# Altium schematic symbol library Schlib1.SchLib: 4 symbols
Pins are listed as number, name and electrical type; pins without a type are passive.

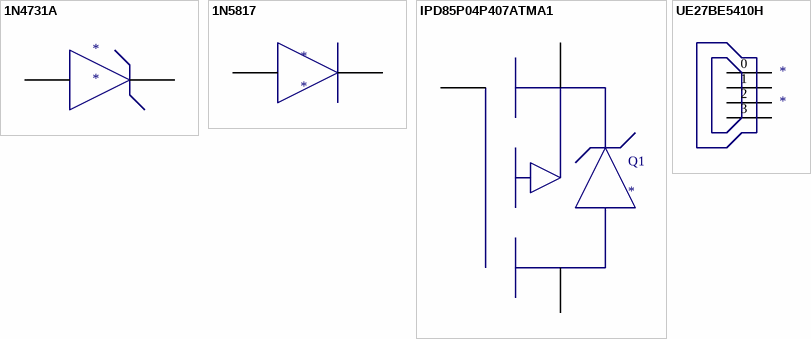
[diagram p0: symbols 1N4731A to UE27BE5410H]

## 1N4731A
designator *
footprint 1N7431A
pins: 9, 10

## 1N5817
designator *
footprint 1N5817
pins: 7, 8

## IPD85P04P407ATMA1
designator Q1
Single P-Channel 40 V 73 mOhm 89 nC OptiMOS Power Mosfet - TO-252-3; Manufacturer: Infineon; Manufacturer Part Number: IPD85P04P407ATMA1; Number of  Elements: 1; Polarity: P; Channel Mode: Enhancement; Drain-Source On-Volt: 40V; Gate-Source Voltage (Max): ±20V; Continuous Drain Current: 85A; Power Dissipation: 88W; Supplier 1: Mouser; Stock 1: 22674; Pricing 1: 1=1.89, 10=1.7, 50=1.7, 100=1.33, 500=1.1, 1000=0.959, 2500=0.958, 10000=0.958 (USD); Type: Power MOSFET; Operating Temp Range: -55C to 175C; Operating Temperature Classification: Military; Mounting: Surface Mount; Pin Count: 2 +Tab; Package Type: TO-252; ComponentLink1URL: http://www.farnell.com/datasheets/2255653.pdf?src-supplier=Newark; ComponentLink1Description: http://www.farnell.com/datasheets/2255653.pdf?src-supplier=Newark; ComponentLink2URL: http://www.farnell.com/datasheets/2255653.pdf?src-supplier=Farnell; ComponentLink2Description: http://www.farnell.com/datasheets/2255653.pdf?src-supplier=Farnell; ComponentLink3URL: http://datasheet.octopart.com/IPD85P04P407ATMA1-Infineon-datasheet-62294922.pdf?src-supplier=Farnell; ComponentLink3Description: http://datasheet.octopart.com/IPD85P04P407ATMA1-Infineon-datasheet-62294922.pdf?src-supplier=Farnell; ComponentLink4URL: http://datasheet.octopart.com/IPD85P04P407ATMA1-Infineon-datasheet-62294922.pdf?src-supplier=Digi-Key; ComponentLink4Description: http://datasheet.octopart.com/IPD85P04P407ATMA1-Infineon-datasheet-62294922.pdf?src-supplier=Digi-Key; ComponentLink5URL: http://datasheet.octopart.com/IPD85P04P407ATMA1-Infineon-datasheet-62294922.pdf?src-supplier=Newark; ComponentLink5Description: http://datasheet.octopart.com/IPD85P04P407ATMA1-Infineon-datasheet-62294922.pdf?src-supplier=Newark; ComponentLink6URL: http://www.mouser.com/ds/2/196/IPD85P04P4-07_DS_10-349929.pdf?src-supplier=Mouser; ComponentLink6Description: http://www.mouser.com/ds/2/196/IPD85P04P4-07_DS_10-349929.pdf?src-supplier=Mouser; ComponentLink7URL: http://www.infineon.com/dgdl/Infineon-IPD85P04P4_07-DS-v01_00-en.pdf?fileId=db3a30432f69f146012f782666e92ddd&ack=t&src-supplier=Avnet; ComponentLink7Description: http://www.infineon.com/dgdl/Infineon-IPD85P04P4_07-DS-v01_00-en.pdf?fileId=db3a30432f69f146012f782666e92ddd&ack=t&src-supplier=Avnet; ComponentLink8URL: http://components.arrow.com/part/dataview/52119675S8744607N2051?src-supplier=Arrow+Electronics; ComponentLink8Description: http://components.arrow.com/part/dataview/52119675S8744607N2051?src-supplier=Arrow+Electronics; ComponentLink9URL: https://www.infineon.com/dgdl/Infineon-IPD85P04P4_07-DS-v01_00-en.pdf?fileId=db3a30432f69f146012f782666e92ddd&src-supplier=Digi-Key; ComponentLink9Description: https://www.infineon.com/dgdl/Infineon-IPD85P04P4_07-DS-v01_00-en.pdf?fileId=db3a30432f69f146012f782666e92ddd&src-supplier=Digi-Key; Supplier Part Number 1: 726-IPD85P04P407ATM2
footprint DPAK228P990X238-4N
pins: 4, 5, 6

## UE27BE5410H
designator *
Connector, Usb 2.0 B Type, Vertical Receptacle, Ht; Manufacturer: Amphenol; Manufacturer Part Number: UE27BE5410H; Gender: Receptacle (Female); Number of Contacts: 4 Contact; Number of Ports: 1 Port; Current Rating: 1 A; Brand: Amphenol Commercial Products; Connector Type: Type B Receptacle; Insulation Resistance: 1000 MOhms; Mounting Angle: Straight; Voltage Rating: 30 VAC; Supplier 1: Mouser; Stock 1: 9363; Pricing 1: 1=1.42, 10=1.15, 50=1.15, 100=1.15, 1000=0.97, 10000=0.88 (USD); Product Category: USB Connectors; RoHS: True; Product: USB Type B Connectors; Standard: USB 2.0; Termination Style: Through Hole; Color: Black; Contact Material: Phosphor Bronze; Contact Plating: Gold; Flammability Rating: UL 94 V-0; Mounting Style: Panel; Packaging: Tray; Series: USB B; Shell Plating: Nickel; Factory Pack Quantity: 120; ComponentLink1URL: http://datasheet.octopart.com/UE27BE5410H-Amphenol-datasheet-12550267.pdf?src-supplier=Mouser; ComponentLink1Description: http://datasheet.octopart.com/UE27BE5410H-Amphenol-datasheet-12550267.pdf?src-supplier=Mouser; ComponentLink2URL: http://www.amphenolcanada.com/ProductSearch/drawings/AC/UE27BEX4X0X.pdf?src-supplier=Future+Electronics; ComponentLink2Description: http://www.amphenolcanada.com/ProductSearch/drawings/AC/UE27BEX4X0X.pdf?src-supplier=Future+Electronics; Supplier Part Number 1: 523-UE27BE5410H
pins: 0, 1, 2, 3